# EAGLE library part EFM32GG11B8XX_QFP100 (library Labops_Lib_AH)
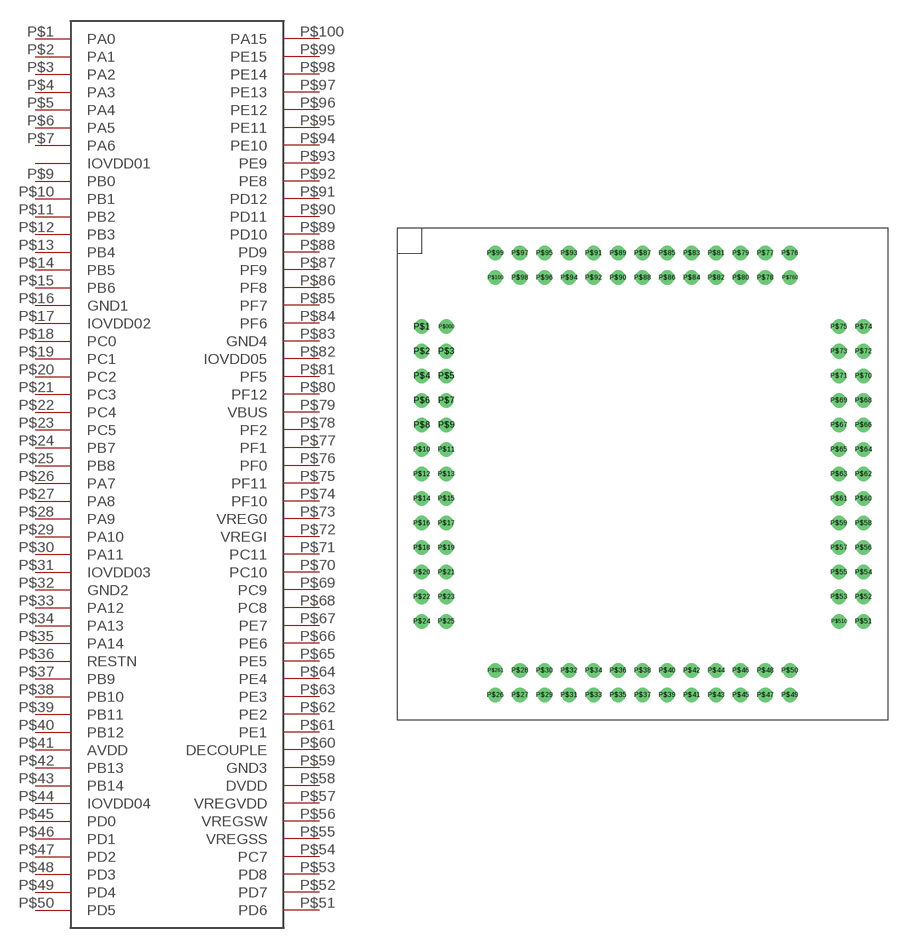
[diagram p19: symbol with the pads of LQFP_100_PINS_BREAKOUT; footprint LQFP_100_PINS_BREAKOUT]

Designator prefix U

## EFM32GG11B8XX_QFP100  [LQFP_100_PINS_BREAKOUT]
P$1  PA0
P$2  PA1
P$3  PA2
P$4  PA3
P$5  PA4
P$6  PA5
P$7  PA6
P$8  IOVDD01  pwr
P$9  PB0
P$10  PB1
P$11  PB2
P$12  PB3
P$13  PB4
P$14  PB5
P$15  PB6
P$16  GND1  pwr
P$17  IOVDD02  pwr
P$18  PC0
P$19  PC1
P$20  PC2
P$21  PC3
P$22  PC4
P$23  PC5
P$24  PB7
P$25  PB8
P$26  PA7
P$27  PA8
P$28  PA9
P$29  PA10
P$30  PA11
P$31  IOVDD03  pwr
P$32  GND2  pwr
P$33  PA12
P$34  PA13
P$35  PA14
P$36  RESTN
P$37  PB9
P$38  PB10
P$39  PB11
P$40  PB12
P$41  AVDD  pwr
P$42  PB13
P$43  PB14
P$44  IOVDD04  pwr
P$45  PD0
P$46  PD1
P$47  PD2
P$48  PD3
P$49  PD4
P$50  PD5
P$51  PD6
P$52  PD7
P$53  PD8
P$54  PC7
P$55  VREGSS
P$56  VREGSW
P$57  VREGVDD
P$58  DVDD
P$59  GND3  pwr
P$60  DECOUPLE  pwr
P$61  PE1
P$62  PE2
P$63  PE3
P$64  PE4
P$65  PE5
P$66  PE6
P$67  PE7
P$68  PC8
P$69  PC9
P$70  PC10
P$71  PC11
P$72  VREGI  pwr
P$73  VREG0  pwr
P$74  PF10
P$75  PF11
P$76  PF0
P$77  PF1
P$78  PF2
P$79  VBUS
P$80  PF12
P$81  PF5
P$82  IOVDD05  pwr
P$83  GND4  pwr
P$84  PF6
P$85  PF7
P$86  PF8
P$87  PF9
P$88  PD9
P$89  PD10
P$90  PD11
P$91  PD12
P$92  PE8
P$93  PE9
P$94  PE10
P$95  PE11
P$96  PE12
P$97  PE13
P$98  PE14
P$99  PE15
P$100  PA15

## Footprint LQFP_100_PINS_BREAKOUT (pad centres in mm)
drill 1: P$000 -20.32,15.24; P$1 -22.86,15.24; P$2 -22.86,12.7; P$3 -20.32,12.7; P$4 -22.86,10.16; P$5 -20.32,10.16; P$6 -22.86,7.62; P$7 -20.32,7.62; P$8 -22.86,5.08; P$9 -20.32,5.08; P$10 -22.86,2.54; P$11 -20.32,2.54; P$12 -22.86,0; P$13 -20.32,0; P$14 -22.86,-2.54; P$15 -20.32,-2.54; P$16 -22.86,-5.08; P$17 -20.32,-5.08; P$18 -22.86,-7.62; P$19 -20.32,-7.62; P$20 -22.86,-10.16; P$21 -20.32,-10.16; P$22 -22.86,-12.7; P$23 -20.32,-12.7; P$24 -22.86,-15.24; P$25 -20.32,-15.24; P$26 -15.24,-22.86; P$27 -12.7,-22.86; P$28 -12.7,-20.32; P$29 -10.16,-22.86; P$30 -10.16,-20.32; P$31 -7.62,-22.86; P$32 -7.62,-20.32; P$33 -5.08,-22.86; P$34 -5.08,-20.32; P$35 -2.54,-22.86; P$36 -2.54,-20.32; P$37 0,-22.86; P$38 0,-20.32; P$39 2.54,-22.86; P$40 2.54,-20.32; P$41 5.08,-22.86; P$42 5.08,-20.32; P$43 7.62,-22.86; P$44 7.62,-20.32; P$45 10.16,-22.86; P$46 10.16,-20.32; P$47 12.7,-22.86; P$48 12.7,-20.32; P$49 15.24,-22.86; P$50 15.24,-20.32; P$51 22.86,-15.24; P$52 22.86,-12.7; P$53 20.32,-12.7; P$54 22.86,-10.16; P$55 20.32,-10.16; P$56 22.86,-7.62; P$57 20.32,-7.62; P$58 22.86,-5.08; P$59 20.32,-5.08; P$60 22.86,-2.54; P$61 20.32,-2.54; P$62 22.86,0; P$63 20.32,0; P$64 22.86,2.54; P$65 20.32,2.54; P$66 22.86,5.08; P$67 20.32,5.08; P$68 22.86,7.62; P$69 20.32,7.62; P$70 22.86,10.16; P$71 20.32,10.16; P$72 22.86,12.7; P$73 20.32,12.7; P$74 22.86,15.24; P$75 20.32,15.24; P$76 15.24,22.86; P$77 12.7,22.86; P$78 12.7,20.32; P$79 10.16,22.86; P$80 10.16,20.32; P$81 7.62,22.86; P$82 7.62,20.32; P$83 5.08,22.86; P$84 5.08,20.32; P$85 2.54,22.86; P$86 2.54,20.32; P$87 0,22.86; P$88 0,20.32; P$89 -2.54,22.86; P$90 -2.54,20.32; P$91 -5.08,22.86; P$92 -5.08,20.32; P$93 -7.62,22.86; P$94 -7.62,20.32; P$95 -10.16,22.86; P$96 -10.16,20.32; P$97 -12.7,22.86; P$98 -12.7,20.32; P$99 -15.24,22.86; P$100 -15.24,20.32; P$261 -15.24,-20.32; P$510 20.32,-15.24; P$760 15.24,20.32